# Altium schematic symbol library PTH08T-10DIP.SchLib: 1 symbol
Pins are listed as number, name and electrical type; pins without a type are passive.

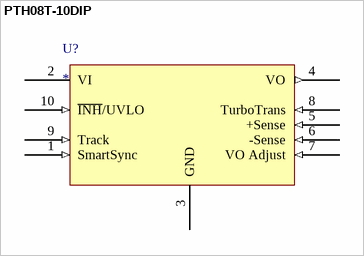
[diagram p0: symbol PTH08T-10DIP]

## PTH08T-10DIP
designator U?
pins: 1 SmartSync (in) "Switching sync input", 2 VI (power) "Voltage in", 3 GND (power) "Ground", 4 VO (out) "Regulator output voltage", 5 +Sense (in) "Voltage sense input", 6 -Sense (in) "Voltage sense input", 7 VO Adjust (in) "Input to set the output voltage", 8 TurboTrans (in) "Input to adjust transient response", 9 Track (in) "Track input", 10 ~{INH}/UVLO (in) "Inhibit input"